# EAGLE library part TC7W04FU (library robots)
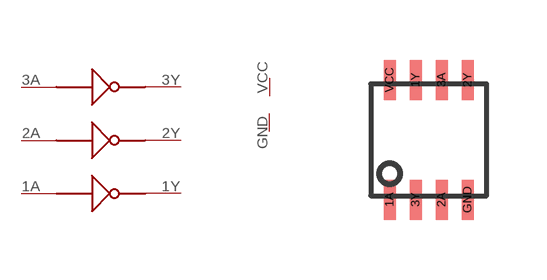
[diagram p13: symbol with the pads of SSOP8-0.65; footprint SSOP8-0.65]

Designator prefix -; gates G$1=INVERTER G$2=INVERTER G$3=INVERTER G$4=VCC

## TC7W04FU  [SSOP8-0.65]
1A  G$1:A
1Y  G$1:Y
2A  G$2:A
2Y  G$2:Y
3A  G$3:A
3Y  G$3:Y
GND  G$4:GND
VCC  G$4:5

## Footprint SSOP8-0.65 (pad centres in mm)
smd 0.3 x 1: 1A 0,0; 1Y 0.65,3; 2A 1.3,0; 2Y 1.95,3; 3A 1.3,3; 3Y 0.65,0; GND 1.95,0; VCC 0,3